# Altium schematic symbol library DA2319-ALB.Schlib: 1 symbol
Pins are listed as number, name and electrical type; pins without a type are passive.

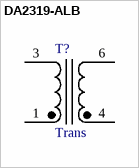
[diagram p0: symbol DA2319-ALB]

## DA2319-ALB
designator T?, comment Trans
Transformer
pins: 1 2, 3 1, 4, 6 3